# EAGLE library part FTSH-110 (library apbteam-con-samtec)
Samtec FTSH-110 connector Created by florent@duchon.cc
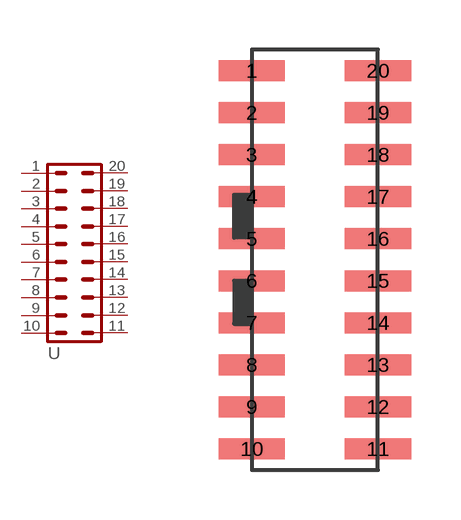
[diagram p0: symbol with the pads of FTSH-110-01-L-DV; footprint FTSH-110-01-L-DV]

Designator prefix -

## FTSH-110  [FTSH-110-01-L-DV]
1  1
2  2
3  3
4  4
5  5
6  6
7  7
8  8
9  9
10  10
11  11
12  12
13  13
14  14
15  15
16  16
17  17
18  18
19  19
20  20

## Footprint FTSH-110-01-L-DV (pad centres in mm)
Samtec FTSH-110 footprint Created by florent@duchon.cc
smd 2 x 0.635: 1 -1.87,5.65; 2 -1.87,4.38; 3 -1.87,3.11; 4 -1.87,1.84; 5 -1.87,0.57; 6 -1.87,-0.7; 7 -1.87,-1.97; 8 -1.87,-3.24; 9 -1.87,-4.51; 10 -1.87,-5.78; 11 1.94,-5.78; 12 1.94,-4.51; 13 1.94,-3.24; 14 1.94,-1.97; 15 1.94,-0.7; 16 1.94,0.57; 17 1.94,1.84; 18 1.94,3.11; 19 1.94,4.38; 20 1.94,5.65